# Altium footprint library PcbLib.PcbLib: 18 footprints (part 1 of 2)
Each footprint in its own frame and in the unit in brackets; x right, y up, seen from the top. Pads: shape width x height; smd on the part's side, far side on the other; paste and mask are expansions set on the pad; w line width, h text height; cw(c..) or ccw(c..) is an arc to the next point about the centre after c.
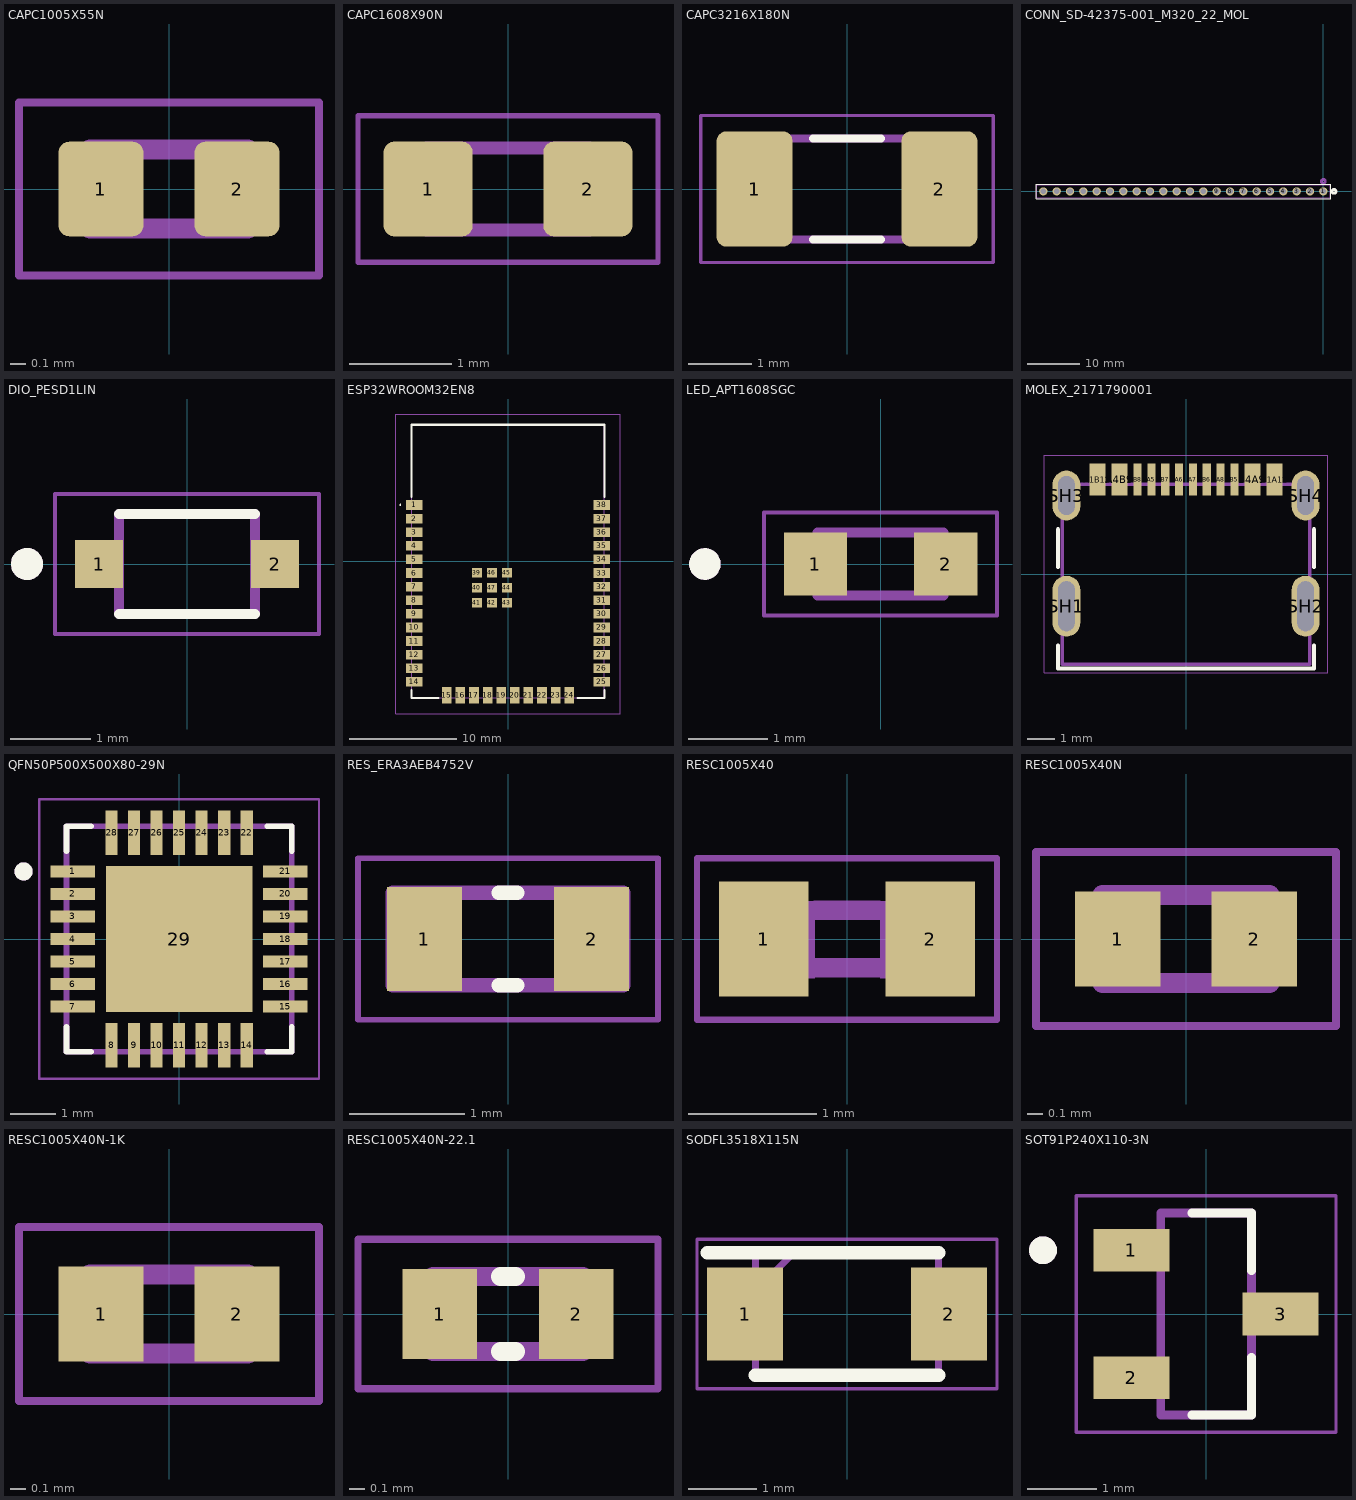
[diagram p0: the footprints below, top view; thin cyan lines are the x and y axes]

## CAPC1005X55N [mm]
pads (2):
  rrect25% 0.54x0.6 smd: 1(-0.432,0) 2(0.432,0)
Mechanical 13:
  lines w0.127: -0.5,-0.25 0.5,-0.25 0.5,0.25 -0.5,0.25 -0.5,-0.25
Mechanical 15:
  lines w0.05: -0.952,-0.55 0.952,-0.55 0.952,0.55 -0.952,0.55 -0.952,-0.55
3D body "step_temp.STEP": height 0.55, standoff 0, extent -0.5,-0.25 0.5,0.25

## CAPC1608X90N [mm]
pads (2):
  rrect25% 0.87x0.93 smd: 1(-0.78,0) 2(0.78,0)
Mechanical 13:
  lines w0.127: -0.8,-0.4 -0.8,0.4 0.8,0.4 0.8,-0.4 -0.8,-0.4
Mechanical 15:
  lines w0.05: -1.465,-0.715 -1.465,0.715 1.465,0.715 1.465,-0.715 -1.465,-0.715
3D body "step_temp.STEP": height 0.9, standoff 0, extent -0.8,-0.4 0.8,0.4

## CAPC3216X180N [mm]
pads (2):
  rrect25% 1.2x1.82 smd: 1(-1.46,0) 2(1.46,0)
Top Overlay:
  lines w0.127: -0.54,-0.8 0.54,-0.8 ; -0.54,0.8 0.54,0.8
Mechanical 13:
  lines w0.127: -1.6,-0.8 1.6,-0.8 1.6,0.8 -1.6,0.8 -1.6,-0.8
Mechanical 15:
  lines w0.05: -2.31,-1.16 2.31,-1.16 2.31,1.16 -2.31,1.16 -2.31,-1.16
3D body "step_temp.STEP": height 1.8, standoff 0, extent -1.6,-0.8 1.6,0.8

## CONN_SD-42375-001_M320_22_MOL [mil]
pads (22):
  round 62 hole 42: 1(0,0) 2(-100,0) 3(-200,0) 4(-300,0) 5(-400,0) 6(-500,0) 7(-600,0) 8(-700,0) 9(-800,0) 10(-900,0) 11(-1000,0) 12(-1100,0) 13(-1200,0) 14(-1300,0) 15(-1400,0) 16(-1500,0) 17(-1600,0) 18(-1700,0) 19(-1800,0) 20(-1900,0) 21(-2000,0) 22(-2100,0)
Top Overlay:
  lines w6: -2155,-54 -2155,54 55,54 55,-54 -2155,-54
  lines w20: 65,0 cw(c80,0) 95,0 cw(c80,0) 65,0
Bottom Overlay:
  lines w20: 65,0 cw(c80,0) 95,0 cw(c80,0) 65,0
Mechanical 13:
  lines w6: -2150,-49 -2150,49 50,49 50,-49 -2150,-49
  lines w20: -15,75 cw(c0,75) 15,75 cw(c0,75) -15,75
3D body "0022284221.stp": height 365, standoff -165, extent -2150,-48 50,50

## DIO_PESD1LIN [mm]
pads (2):
  rect 0.6x0.6 smd paste-0.05: 1(-1.1,0) 2(1.1,0)
Top Overlay:
  circle w0.2: c-2,0 r0.1
  lines w0.127: -0.85,-0.625 0.85,-0.625 ; -0.85,0.625 0.85,0.625
Mechanical 13:
  circle w0.2: c-2,0 r0.1
  lines w0.127: -0.85,-0.625 -0.85,0.625 0.85,0.625 0.85,-0.625 -0.85,-0.625
Mechanical 15:
  lines w0.05: -1.65,-0.875 -1.65,0.875 1.65,0.875 1.65,-0.875 -1.65,-0.875
3D body "step_temp.STEP": height 1.15, standoff 0, extent -1.338,-0.65 1.338,0.65

## ESP32WROOM32EN8 [mm]
pads (47):
  rect 1.5x0.9 smd: 1(-8.75,5.26) 2(-8.75,3.99) 3(-8.75,2.72) 4(-8.75,1.45) 5(-8.75,0.18) 6(-8.75,-1.09) 7(-8.75,-2.36) 8(-8.75,-3.63) 9(-8.75,-4.9) 10(-8.75,-6.17) 11(-8.75,-7.44) 12(-8.75,-8.71) 13(-8.75,-9.98) 14(-8.75,-11.25) 25(8.75,-11.25) 26(8.75,-9.98) 27(8.75,-8.71) 28(8.75,-7.44) 29(8.75,-6.17) 30(8.75,-4.9) 31(8.75,-3.63) 32(8.75,-2.36) 33(8.75,-1.09) 34(8.75,0.18) 35(8.75,1.45) 36(8.75,2.72) 37(8.75,3.99) 38(8.75,5.26)
  rect 0.9x1.5 smd: 15(-5.715,-12.5) 16(-4.445,-12.5) 17(-3.175,-12.5) 18(-1.905,-12.5) 19(-0.635,-12.5) 20(0.635,-12.5) 21(1.905,-12.5) 22(3.175,-12.5) 23(4.445,-12.5) 24(5.715,-12.5)
  rect 0.9x0.9 smd: 39(-2.9,-1.06) 40(-2.9,-2.46) 41(-2.9,-3.86) 42(-1.5,-3.86) 43(-0.1,-3.86) 44(-0.1,-2.46) 45(-0.1,-1.06) 46(-1.5,-1.06) 47(-1.5,-2.46)
Top Overlay:
  lines w0.1: -10.1,5.26 cw(c-10.05,5.26) -10,5.26 cw(c-10.05,5.26) -10.1,5.26
  lines w0.2: -9,-12 -9,-12.75 -6.5,-12.75 ; -9,6 -9,12.75 9,12.75 9,6 ; 6.5,-12.75 9,-12.75 9,-12
Mechanical 13:
  lines w0.1: -10.5,-14.25 -10.5,13.75 10.5,13.75 10.5,-14.25 -10.5,-14.25 ; -9,-12.75 -9,12.75 9,12.75 9,-12.75 -9,-12.75
3D body "step_temp.STEP": height 3.25, standoff 0, extent -9,-12.75 9,12.75

## LED_APT1608SGC [mm]
height 0.75
pads (2):
  rect 0.8x0.8 smd: 1(-0.825,0) 2(0.825,0)
Top Overlay:
  circle w0.2: c-2.225,0 r0.1
Mechanical 13:
  circle w0.2: c-2.225,0 r0.1
  lines w0.127: -0.8,-0.4 -0.8,0.4 0.8,0.4 0.8,-0.4 -0.8,-0.4
Mechanical 15:
  lines w0.05: -1.475,-0.65 1.475,-0.65 1.475,0.65 -1.475,0.65 -1.475,-0.65
3D body "step_temp.STEP": height 0.75, standoff 0, extent -0.8,-0.4 0.8,0.4

## MOLEX_2171790001 [mm]
height 3.16
pads (16):
  rect 0.59x1.15 smd mask+0.064: A1B12(-3.2,3.425) A4B9(-2.4,3.425) B1A12(3.2,3.425) B4A9(2.4,3.425)
  rect 0.298x1.15 smd mask+0.064: A5(-1.25,3.425) A6(-0.25,3.425) A7(0.25,3.425) A8(1.25,3.425) B5(1.75,3.425) B6(0.75,3.425) B7(-0.75,3.425) B8(-1.75,3.425)
  oval 1x2.2 hole 0.6 slot 1.8 at 90 deg mask+0.064: SH1(-4.32,-1.15) SH2(4.32,-1.15)
  oval 1x1.8 hole 0.6 slot 1.4 at 90 deg mask+0.064: SH3(-4.32,2.85) SH4(4.32,2.85)
Top Overlay:
  lines w0.15: -4.62,-2.57 -4.62,-3.4 4.62,-3.4 4.62,-2.57 ; -4.62,0.27 -4.62,1.63 ; 4.62,0.27 4.62,1.63
Mechanical 13:
  lines w0.13: -4.47,-3.25 -4.47,3.25 4.47,3.25 4.47,-3.25 -4.47,-3.25
  text "PTH Slot 0.6 +/-0.05 X 1.8 +/-0.05" at -5.736,8.998 h0.5
  text "PTH Slot 0.6 +/-0.05 X 1.4 +/-0.05" at -5.686,7.878 h0.5
Mechanical 15:
  lines w0.01: -5.12,-3.55 5.12,-3.55 5.12,4.3 -5.12,4.3 -5.12,-3.55
3D body "USB-C.STEP": height 3.24, standoff -0.52, extent -4.47,-3.25 4.47,3.5

## QFN50P500X500X80-29N [mm]
pads (29):
  rect 0.99x0.27 smd: 1(-2.36,1.5) 2(-2.36,1) 3(-2.36,0.5) 4(-2.36,0) 5(-2.36,-0.5) 6(-2.36,-1) 7(-2.36,-1.5) 15(2.36,-1.5) 16(2.36,-1) 17(2.36,-0.5) 18(2.36,0) 19(2.36,0.5) 20(2.36,1) 21(2.36,1.5)
  rect 0.27x0.99 smd: 8(-1.5,-2.36) 9(-1,-2.36) 10(-0.5,-2.36) 11(0,-2.36) 12(0.5,-2.36) 13(1,-2.36) 14(1.5,-2.36) 22(1.5,2.36) 23(1,2.36) 24(0.5,2.36) 25(0,2.36) 26(-0.5,2.36) 27(-1,2.36) 28(-1.5,2.36)
  rect 3.25x3.25 smd paste-0.597: 29(0,0)
Top Overlay:
  circle w0.2: c-3.455,1.5 r0.1
  lines w0.127: -2.5,-1.955 -2.5,-2.5 -1.955,-2.5 ; -2.5,1.955 -2.5,2.5 -1.955,2.5 ; 1.955,-2.5 2.5,-2.5 2.5,-1.955 ; 1.955,2.5 2.5,2.5 2.5,1.955
Mechanical 13:
  circle w0.2: c-3.455,1.5 r0.1
  lines w0.127: -2.5,-2.5 2.5,-2.5 2.5,2.5 -2.5,2.5 -2.5,-2.5
Mechanical 15:
  lines w0.05: -3.105,-3.105 -3.105,3.105 3.105,3.105 3.105,-3.105 -3.105,-3.105
3D body "step_temp.STEP": height 0.38, standoff -0.43, extent -2.5,-2.5 2.5,2.5

## RES_ERA3AEB4752V [mm]
pads (2):
  rect 0.65x0.9 smd: 1(-0.725,0) 2(0.725,0)
Top Overlay:
  lines w0.127: -0.08,-0.4 0.08,-0.4 ; -0.08,0.4 0.08,0.4
Mechanical 13:
  lines w0.127: -1,-0.4 -1,0.4 1,0.4 1,-0.4 -1,-0.4
Mechanical 15:
  lines w0.05: -1.3,-0.7 -1.3,0.7 1.3,0.7 1.3,-0.7 -1.3,-0.7
3D body "R47.5.STEP": height 0.45, standoff 0, extent -0.8,-0.4 0.8,0.4

## RESC1005X40 [mm]
pads (2):
  rect 0.7x0.9 smd: 1(-0.65,0) 2(0.65,0)
Mechanical 13:
  region: 0.559,-0.305 0.259,-0.305 0.259,0.295 0.559,0.295
  region: -0.254,-0.305 -0.555,-0.305 -0.555,0.295 -0.254,0.295
  lines w0.152: -0.245,-0.224 0.245,-0.224 ; -0.245,0.224 0.245,0.224
Mechanical 15:
  lines w0.051: -1.173,-0.633 -1.173,0.633 1.173,0.633 1.173,-0.633 -1.173,-0.633
3D body "step_temp.STEP": height 0.4, standoff 0, extent -0.5,-0.25 0.5,0.25

## RESC1005X40N [mm]
pads (2):
  rect 0.54x0.6 smd: 1(-0.432,0) 2(0.432,0)
Mechanical 13:
  lines w0.127: -0.53,-0.28 0.53,-0.28 0.53,0.28 -0.53,0.28 -0.53,-0.28
Mechanical 15:
  lines w0.05: -0.95,-0.55 0.95,-0.55 0.95,0.55 -0.95,0.55 -0.95,-0.55
3D body "step_temp.STEP": height 0.4, standoff 0, extent -0.5,-0.25 0.5,0.25

## RESC1005X40N-1K [mm]
height 0.4
pads (2):
  rect 0.54x0.6 smd: 1(-0.43,0) 2(0.43,0)
Mechanical 13:
  lines w0.127: -0.5,-0.25 0.5,-0.25 0.5,0.25 -0.5,0.25 -0.5,-0.25
Mechanical 15:
  lines w0.05: -0.95,-0.55 0.95,-0.55 0.95,0.55 -0.95,0.55 -0.95,-0.55
3D body "step_temp.STEP": height 0.4, standoff 0, extent -0.5,-0.25 0.5,0.25

## RESC1005X40N-22.1 [mm]
pads (2):
  rect 0.5x0.6 smd: 1(-0.455,0) 2(0.455,0)
Top Overlay:
  lines w0.127: -0.05,-0.25 0.05,-0.25 ; -0.05,0.25 0.05,0.25
Mechanical 13:
  region: -0.3,-0.25 -0.5,-0.25 -0.5,0.25 -0.3,0.25
  region: 0.5,-0.25 0.3,-0.25 0.3,0.25 0.5,0.25
  lines w0.127: -0.5,-0.25 0.5,-0.25 0.5,0.25 -0.5,0.25 -0.5,-0.25
Mechanical 15:
  lines w0.05: -1,-0.5 1,-0.5 1,0.5 -1,0.5 -1,-0.5
3D body "step_temp.STEP": height 0.4, standoff 0, extent -0.5,-0.25 0.5,0.25

## SODFL3518X115N [mm]
pads (2):
  rect 1.12x1.37 smd: 1(-1.5,0) 2(1.5,0)
Top Overlay:
  lines w0.2: -2.06,0.9 1.35,0.9 ; -1.35,-0.9 1.35,-0.9
Mechanical 15:
  lines w0.1: -1.35,0.34 -0.79,0.9 ; -1.35,-0.9 1.35,-0.9 1.35,0.9 -1.35,0.9 -1.35,-0.9
Mechanical 20:
  lines w0.05: -2.21,-1.1 2.21,-1.1 2.21,1.1 -2.21,1.1 -2.21,-1.1
3D body "1N5819HW1-7-F.stp": height 1.15, standoff 0, extent -1.75,-0.9 1.75,0.9

## SOT91P240X110-3N [mm]
pads (3):
  rect 1.09x0.61 smd: 1(-1.07,0.915) 2(-1.07,-0.915) 3(1.07,0)
Top Overlay:
  circle w0.2: c-2.34,0.915 r0.1
  lines w0.127: -0.205,-1.45 0.65,-1.45 0.65,-0.625 ; -0.205,1.45 0.65,1.45 0.65,0.625
Mechanical 13:
  circle w0.2: c-2.34,0.915 r0.1
  lines w0.127: -0.65,-1.45 -0.65,1.45 0.65,1.45 0.65,-1.45 -0.65,-1.45
Mechanical 15:
  lines w0.05: -1.865,-1.7 1.865,-1.7 1.865,1.7 -1.865,1.7 -1.865,-1.7
3D body "step_temp.STEP": height 1.14, standoff 0, extent -1.2,-1.45 1.2,1.45